# Altium integrated library Cypress PLD Simple.IntLib: 183 symbols (part 3 of 5)
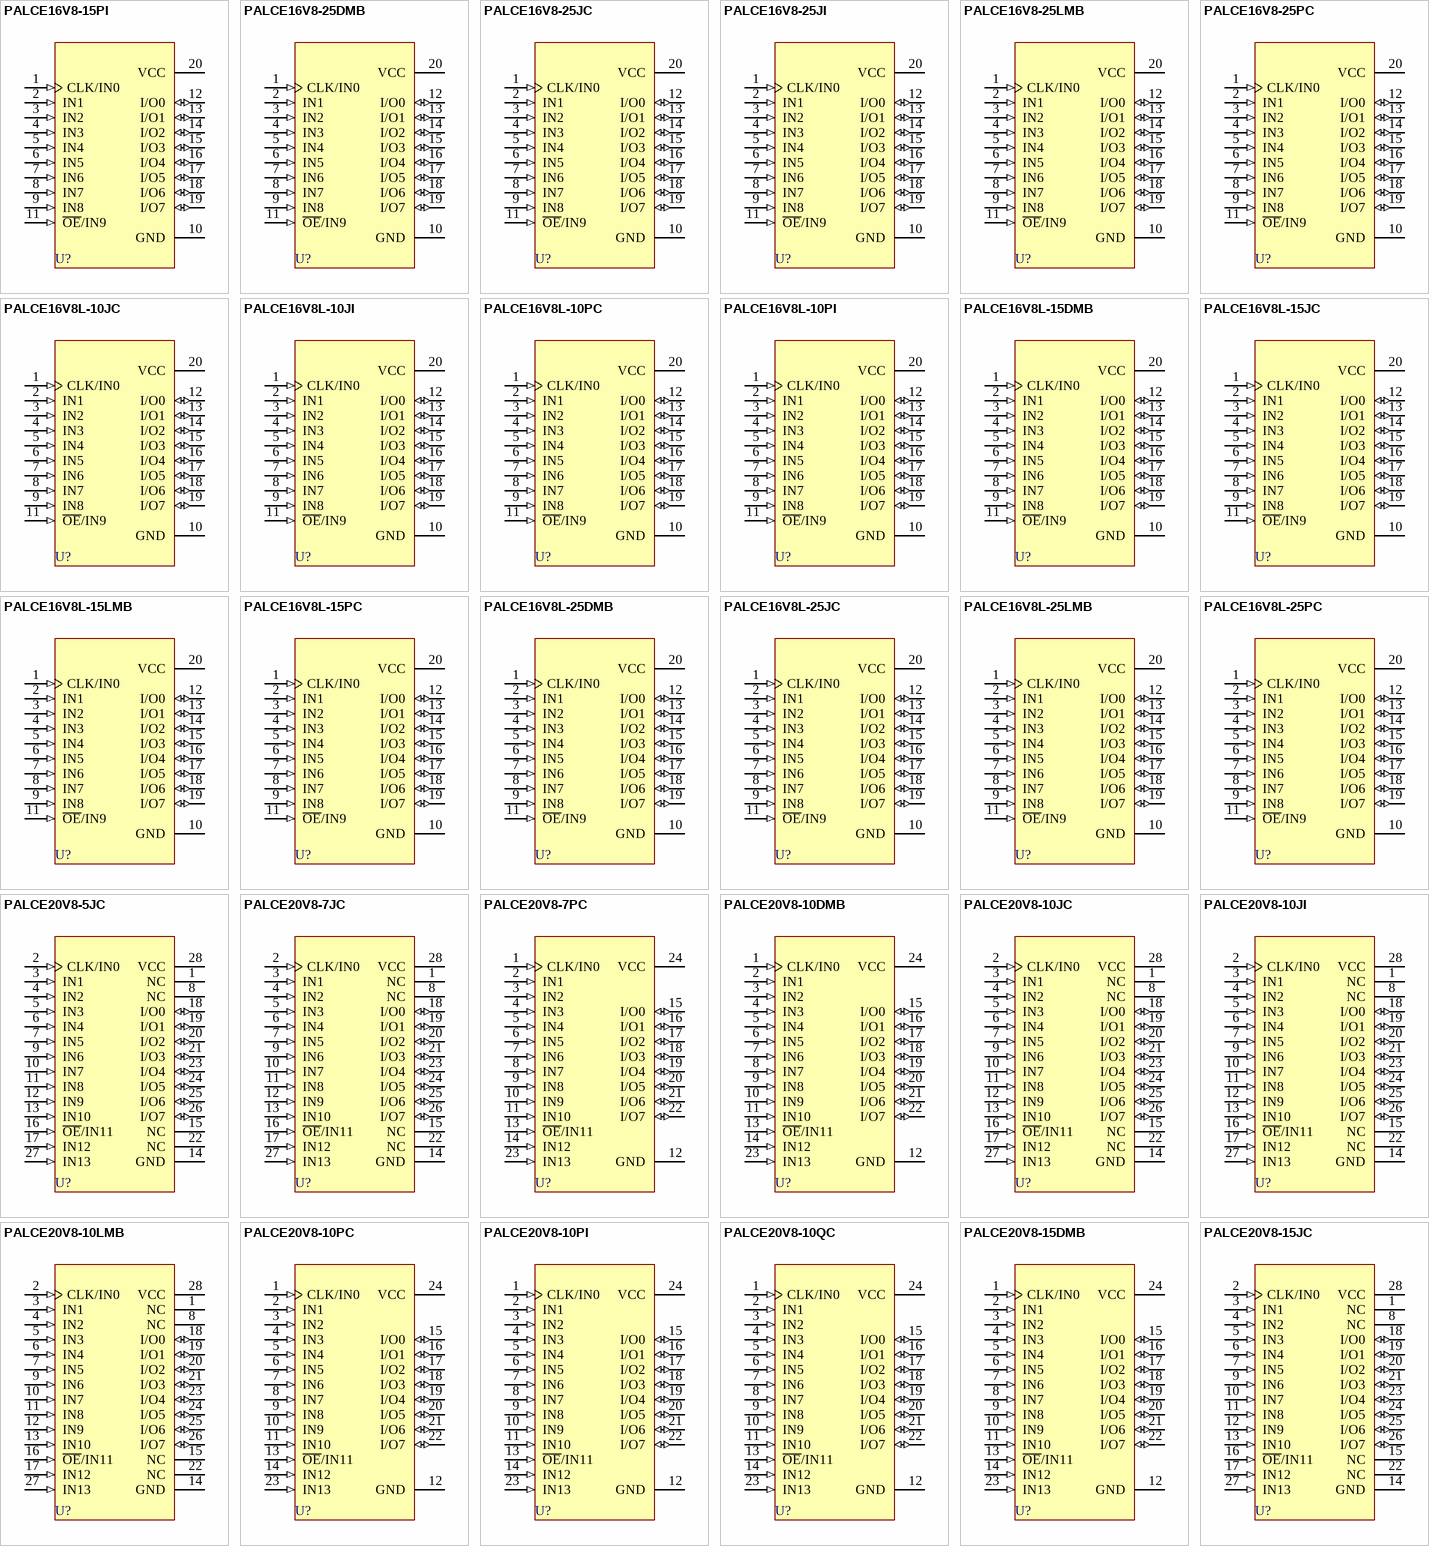
[diagram p9: symbols PALCE16V8-15PI to PALCE20V8-15JC]

## PALCE16V8L-25DMB
designator U?
Flash Erasable, Reprogrammable CMOS PAL Device; ComponentAvailability: Not for New Design; Published: 11-Dec-2002; LatestRevisionDate: 04-Mar-2005; LatestRevisionNote: Stylized 3D Model Added.; DatasheetVersion: 3-Sep-1998; PackageVersion: Jul-2001; PackageReference: D6; Publisher: Altium Limited; PackageDescription: CerDIP; 20 Leads; Row Spacing 7.62 mm; Pitch 2.54 mm; ComponentLink1Description: Manufacturer Link; ComponentLink1URL: http://www.cypress.com/; ComponentLink2Description: Datasheet; ComponentLink2URL: http://www.cypress.com/portal/server.pt/gateway/PTARGS_0_2_1524_209_259_43/http%3B/sjapp20.mis.cypress.com%3B7001/publishedcontent/publish/design_resources/datasheets/contents/palce16v8_5.pdf
footprint D6 (CerDIP; 20 Leads; Row Spacing 7.62 mm; Pitch 2.54 mm)
3D model D6 (CerDIP; 20 Leads; Row Spacing 7.62 mm; Pitch 2.54 mm)
pins: 1 CLK/IN0 (in), 2 IN1 (in), 3 IN2 (in), 4 IN3 (in), 5 IN4 (in), 6 IN5 (in), 7 IN6 (in), 8 IN7 (in), 9 IN8 (in), 10 GND (power), 11 ~{OE}/IN9 (in), 12 I/O0 (io), 13 I/O1 (io), 14 I/O2 (io), 15 I/O3 (io), 16 I/O4 (io), 17 I/O5 (io), 18 I/O6 (io), 19 I/O7 (io), 20 VCC (power)

## PALCE16V8L-25JC
designator U?
Flash Erasable, Reprogrammable CMOS PAL Device; ComponentAvailability: Not for New Design; Published: 11-Dec-2002; LatestRevisionDate: 13-Apr-2006; LatestRevisionNote: IPC-7351 Footprint Added.; DatasheetVersion: 3-Sep-1998; PackageVersion: Aug-2000; PackageReference: J61; Publisher: Altium Limited; PackageDescription: 20-Pin Plastic Leaded Chip Carrier 1.27 mm Pitch; Code_IPC: PLCC-20; ComponentLink1Description: Manufacturer Link; ComponentLink1URL: http://www.cypress.com/; ComponentLink2Description: Datasheet; ComponentLink2URL: http://www.cypress.com/portal/server.pt/gateway/PTARGS_0_2_1524_209_259_43/http%3B/sjapp20.mis.cypress.com%3B7001/publishedcontent/publish/design_resources/datasheets/contents/palce16v8_5.pdf
footprint J61_N (Leaded Chip Carrier, 20-Leads, Body 9x9mm, Pitch 1.27mm, IPC Medium Density)
footprint J61_L (Leaded Chip Carrier, 20-Leads, Body 9x9mm, Pitch 1.27mm, IPC High Density)
footprint J61_M (Leaded Chip Carrier, 20-Leads, Body 9x9mm, Pitch 1.27mm, IPC Low Density)
3D model PALCE16V8L-J61 (20-Pin Plastic Leaded Chip Carrier 1.27 mm Pitch)
pins: 1 CLK/IN0 (in), 2 IN1 (in), 3 IN2 (in), 4 IN3 (in), 5 IN4 (in), 6 IN5 (in), 7 IN6 (in), 8 IN7 (in), 9 IN8 (in), 10 GND (power), 11 ~{OE}/IN9 (in), 12 I/O0 (io), 13 I/O1 (io), 14 I/O2 (io), 15 I/O3 (io), 16 I/O4 (io), 17 I/O5 (io), 18 I/O6 (io), 19 I/O7 (io), 20 VCC (power)

## PALCE16V8L-25LMB
designator U?
Flash Erasable, Reprogrammable CMOS PAL Device; ComponentAvailability: Not for New Design; Published: 11-Dec-2002; DatasheetVersion: 3-Sep-1998; PackageVersion: Jul-2001; PackageReference: L61; Publisher: Altium Limited; PackageDescription: Leadless Chip Carrier; 20 Terminals; Body 8.9 x 8.9 mm; ComponentLink1Description: Manufacturer Link; ComponentLink1URL: http://www.cypress.com/; ComponentLink2Description: Datasheet; ComponentLink2URL: http://www.cypress.com/portal/server.pt/gateway/PTARGS_0_2_1524_209_259_43/http%3B/sjapp20.mis.cypress.com%3B7001/publishedcontent/publish/design_resources/datasheets/contents/palce16v8_5.pdf
footprint L61 (Leadless Chip Carrier; 20 Terminals; Body 8.9 x 8.9 mm)
pins: 1 CLK/IN0 (in), 2 IN1 (in), 3 IN2 (in), 4 IN3 (in), 5 IN4 (in), 6 IN5 (in), 7 IN6 (in), 8 IN7 (in), 9 IN8 (in), 10 GND (power), 11 ~{OE}/IN9 (in), 12 I/O0 (io), 13 I/O1 (io), 14 I/O2 (io), 15 I/O3 (io), 16 I/O4 (io), 17 I/O5 (io), 18 I/O6 (io), 19 I/O7 (io), 20 VCC (power)

## PALCE16V8L-25PC
designator U?
Flash Erasable, Reprogrammable CMOS PAL Device; ComponentAvailability: Not for New Design; Published: 11-Dec-2002; LatestRevisionDate: 04-Mar-2005; LatestRevisionNote: Stylized 3D Model Added.; DatasheetVersion: 3-Sep-1998; PackageVersion: Oct-2004; PackageReference: P5; Publisher: Altium Limited; PackageDescription: DIP, Molded; 20 Leads; Row Spacing 7.62 mm; Pitch 2.54 mm; Code_JEDEC: MS-001-AD; ComponentLink1Description: Manufacturer Link; ComponentLink1URL: http://www.cypress.com/; ComponentLink2Description: Datasheet; ComponentLink2URL: http://www.cypress.com/portal/server.pt/gateway/PTARGS_0_2_1524_209_259_43/http%3B/sjapp20.mis.cypress.com%3B7001/publishedcontent/publish/design_resources/datasheets/contents/palce16v8_5.pdf
footprint P5 (DIP, Molded; 20 Leads; Row Spacing 7.62 mm; Pitch 2.54 mm)
3D model P5 (DIP, Molded; 20 Leads; Row Spacing 7.62 mm; Pitch 2.54 mm)
pins: 1 CLK/IN0 (in), 2 IN1 (in), 3 IN2 (in), 4 IN3 (in), 5 IN4 (in), 6 IN5 (in), 7 IN6 (in), 8 IN7 (in), 9 IN8 (in), 10 GND (power), 11 ~{OE}/IN9 (in), 12 I/O0 (io), 13 I/O1 (io), 14 I/O2 (io), 15 I/O3 (io), 16 I/O4 (io), 17 I/O5 (io), 18 I/O6 (io), 19 I/O7 (io), 20 VCC (power)

## PALCE20V8-5JC
designator U?
Flash Erasable, Reprogrammable CMOS PAL Device; ComponentAvailability: Not for New Design; Published: 11-Dec-2002; LatestRevisionDate: 13-Apr-2006; LatestRevisionNote: IPC-7351 Footprint Added.; DatasheetVersion: 26-Mar-1997; PackageVersion: Jul-2000; PackageReference: J64; Publisher: Altium Limited; PackageDescription: 28-Pin Plastic Leaded Chip Carrier 1.27 mm Pitch; Code_IPC: PLCC-28; ComponentLink1Description: Manufacturer Link; ComponentLink1URL: http://www.cypress.com/; ComponentLink2Description: Datasheet; ComponentLink2URL: http://www.cypress.com/portal/server.pt/gateway/PTARGS_0_2_1524_209_259_43/http%3B/sjapp20.mis.cypress.com%3B7001/publishedcontent/publish/design_resources/datasheets/contents/palce20v8_5.pdf
footprint J64_N (Leaded Chip Carrier, 28-Leads, Body 11.5x11.5mm, Pitch 1.27mm, IPC Medium Density)
footprint J64_L (Leaded Chip Carrier, 28-Leads, Body 11.5x11.5mm, Pitch 1.27mm, IPC High Density)
footprint J64_M (Leaded Chip Carrier, 28-Leads, Body 11.5x11.5mm, Pitch 1.27mm, IPC Low Density)
3D model PALCE20V8-J64 (28-Pin Plastic Leaded Chip Carrier 1.27 mm Pitch)
pins: 1 NC, 2 CLK/IN0 (in), 3 IN1 (in), 4 IN2 (in), 5 IN3 (in), 6 IN4 (in), 7 IN5 (in), 8 NC, 9 IN6 (in), 10 IN7 (in), 11 IN8 (in), 12 IN9 (in), 13 IN10 (in), 14 GND (power), 15 NC, 16 ~{OE}/IN11 (in), 17 IN12 (in), 18 I/O0 (io), 19 I/O1 (io), 20 I/O2 (io), 21 I/O3 (io), 22 NC, 23 I/O4 (io), 24 I/O5 (io), 25 I/O6 (io), 26 I/O7 (io), 27 IN13 (in), 28 VCC (power)

## PALCE20V8-7JC
designator U?
Flash Erasable, Reprogrammable CMOS PAL Device; ComponentAvailability: Not for New Design; Published: 11-Dec-2002; LatestRevisionDate: 13-Apr-2006; LatestRevisionNote: IPC-7351 Footprint Added.; DatasheetVersion: 26-Mar-1997; PackageVersion: Jul-2000; PackageReference: J64; Publisher: Altium Limited; PackageDescription: 28-Pin Plastic Leaded Chip Carrier 1.27 mm Pitch; Code_IPC: PLCC-28; ComponentLink1Description: Manufacturer Link; ComponentLink1URL: http://www.cypress.com/; ComponentLink2Description: Datasheet; ComponentLink2URL: http://www.cypress.com/portal/server.pt/gateway/PTARGS_0_2_1524_209_259_43/http%3B/sjapp20.mis.cypress.com%3B7001/publishedcontent/publish/design_resources/datasheets/contents/palce20v8_5.pdf
footprint J64_N (Leaded Chip Carrier, 28-Leads, Body 11.5x11.5mm, Pitch 1.27mm, IPC Medium Density)
footprint J64_L (Leaded Chip Carrier, 28-Leads, Body 11.5x11.5mm, Pitch 1.27mm, IPC High Density)
footprint J64_M (Leaded Chip Carrier, 28-Leads, Body 11.5x11.5mm, Pitch 1.27mm, IPC Low Density)
3D model PALCE20V8-J64 (28-Pin Plastic Leaded Chip Carrier 1.27 mm Pitch)
pins: 1 NC, 2 CLK/IN0 (in), 3 IN1 (in), 4 IN2 (in), 5 IN3 (in), 6 IN4 (in), 7 IN5 (in), 8 NC, 9 IN6 (in), 10 IN7 (in), 11 IN8 (in), 12 IN9 (in), 13 IN10 (in), 14 GND (power), 15 NC, 16 ~{OE}/IN11 (in), 17 IN12 (in), 18 I/O0 (io), 19 I/O1 (io), 20 I/O2 (io), 21 I/O3 (io), 22 NC, 23 I/O4 (io), 24 I/O5 (io), 25 I/O6 (io), 26 I/O7 (io), 27 IN13 (in), 28 VCC (power)

## PALCE20V8-7PC
designator U?
Flash Erasable, Reprogrammable CMOS PAL Device; ComponentAvailability: Not for New Design; Published: 11-Dec-2002; LatestRevisionDate: 06-Oct-2005; LatestRevisionNote: Increased PCB silkscreen length.; DatasheetVersion: 26-Mar-1997; PackageVersion: Mar-2005; PackageReference: P13; Publisher: Altium Limited; PackageDescription: DIP, Molded; 24 Leads; Row Spacing 7.62 mm; Pitch 2.54 mm; ComponentLink1Description: Manufacturer Link; ComponentLink1URL: http://www.cypress.com/; ComponentLink2Description: Datasheet; ComponentLink2URL: http://www.cypress.com/portal/server.pt/gateway/PTARGS_0_2_1524_209_259_43/http%3B/sjapp20.mis.cypress.com%3B7001/publishedcontent/publish/design_resources/datasheets/contents/palce20v8_5.pdf
footprint P13 (DIP, Molded; 24 Leads; Row Spacing 7.62 mm; Pitch 2.54 mm)
3D model P13 (DIP, Molded; 24 Leads; Row Spacing 7.62 mm; Pitch 2.54 mm)
pins: 1 CLK/IN0 (in), 2 IN1 (in), 3 IN2 (in), 4 IN3 (in), 5 IN4 (in), 6 IN5 (in), 7 IN6 (in), 8 IN7 (in), 9 IN8 (in), 10 IN9 (in), 11 IN10 (in), 12 GND (power), 13 ~{OE}/IN11 (in), 14 IN12 (in), 15 I/O0 (io), 16 I/O1 (io), 17 I/O2 (io), 18 I/O3 (io), 19 I/O4 (io), 20 I/O5 (io), 21 I/O6 (io), 22 I/O7 (io), 23 IN13 (in), 24 VCC (power)

## PALCE20V8-10DMB
designator U?
Flash Erasable, Reprogrammable CMOS PAL Device; ComponentAvailability: Not for New Design; Published: 11-Dec-2002; LatestRevisionDate: 04-Mar-2005; LatestRevisionNote: Stylized 3D Model Added.; DatasheetVersion: 26-Mar-1997; PackageVersion: Jul-2001; PackageReference: D14; Publisher: Altium Limited; PackageDescription: CerDIP; 24 Leads; Row Spacing 7.62 mm; Pitch 2.54 mm; Code_JEDEC: MS-001-AF; ComponentLink1Description: Manufacturer Link; ComponentLink1URL: http://www.cypress.com/; ComponentLink2Description: Datasheet; ComponentLink2URL: http://www.cypress.com/portal/server.pt/gateway/PTARGS_0_2_1524_209_259_43/http%3B/sjapp20.mis.cypress.com%3B7001/publishedcontent/publish/design_resources/datasheets/contents/palce20v8_5.pdf
footprint D14 (CerDIP; 24 Leads; Row Spacing 7.62 mm; Pitch 2.54 mm)
3D model D14 (CerDIP; 24 Leads; Row Spacing 7.62 mm; Pitch 2.54 mm)
pins: 1 CLK/IN0 (in), 2 IN1 (in), 3 IN2 (in), 4 IN3 (in), 5 IN4 (in), 6 IN5 (in), 7 IN6 (in), 8 IN7 (in), 9 IN8 (in), 10 IN9 (in), 11 IN10 (in), 12 GND (power), 13 ~{OE}/IN11 (in), 14 IN12 (in), 15 I/O0 (io), 16 I/O1 (io), 17 I/O2 (io), 18 I/O3 (io), 19 I/O4 (io), 20 I/O5 (io), 21 I/O6 (io), 22 I/O7 (io), 23 IN13 (in), 24 VCC (power)

## PALCE20V8-10JC
designator U?
Flash Erasable, Reprogrammable CMOS PAL Device; ComponentAvailability: Not for New Design; Published: 11-Dec-2002; LatestRevisionDate: 13-Apr-2006; LatestRevisionNote: IPC-7351 Footprint Added.; DatasheetVersion: 26-Mar-1997; PackageVersion: Jul-2000; PackageReference: J64; Publisher: Altium Limited; PackageDescription: 28-Pin Plastic Leaded Chip Carrier 1.27 mm Pitch; Code_IPC: PLCC-28; ComponentLink1Description: Manufacturer Link; ComponentLink1URL: http://www.cypress.com/; ComponentLink2Description: Datasheet; ComponentLink2URL: http://www.cypress.com/portal/server.pt/gateway/PTARGS_0_2_1524_209_259_43/http%3B/sjapp20.mis.cypress.com%3B7001/publishedcontent/publish/design_resources/datasheets/contents/palce20v8_5.pdf
footprint J64_N (Leaded Chip Carrier, 28-Leads, Body 11.5x11.5mm, Pitch 1.27mm, IPC Medium Density)
footprint J64_L (Leaded Chip Carrier, 28-Leads, Body 11.5x11.5mm, Pitch 1.27mm, IPC High Density)
footprint J64_M (Leaded Chip Carrier, 28-Leads, Body 11.5x11.5mm, Pitch 1.27mm, IPC Low Density)
3D model PALCE20V8-J64 (28-Pin Plastic Leaded Chip Carrier 1.27 mm Pitch)
pins: 1 NC, 2 CLK/IN0 (in), 3 IN1 (in), 4 IN2 (in), 5 IN3 (in), 6 IN4 (in), 7 IN5 (in), 8 NC, 9 IN6 (in), 10 IN7 (in), 11 IN8 (in), 12 IN9 (in), 13 IN10 (in), 14 GND (power), 15 NC, 16 ~{OE}/IN11 (in), 17 IN12 (in), 18 I/O0 (io), 19 I/O1 (io), 20 I/O2 (io), 21 I/O3 (io), 22 NC, 23 I/O4 (io), 24 I/O5 (io), 25 I/O6 (io), 26 I/O7 (io), 27 IN13 (in), 28 VCC (power)

## PALCE20V8-10JI
designator U?
Flash Erasable, Reprogrammable CMOS PAL Device; ComponentAvailability: Not for New Design; Published: 11-Dec-2002; LatestRevisionDate: 13-Apr-2006; LatestRevisionNote: IPC-7351 Footprint Added.; DatasheetVersion: 26-Mar-1997; PackageVersion: Jul-2000; PackageReference: J64; Publisher: Altium Limited; PackageDescription: 28-Pin Plastic Leaded Chip Carrier 1.27 mm Pitch; Code_IPC: PLCC-28; ComponentLink1Description: Manufacturer Link; ComponentLink1URL: http://www.cypress.com/; ComponentLink2Description: Datasheet; ComponentLink2URL: http://www.cypress.com/portal/server.pt/gateway/PTARGS_0_2_1524_209_259_43/http%3B/sjapp20.mis.cypress.com%3B7001/publishedcontent/publish/design_resources/datasheets/contents/palce20v8_5.pdf
footprint J64_N (Leaded Chip Carrier, 28-Leads, Body 11.5x11.5mm, Pitch 1.27mm, IPC Medium Density)
footprint J64_L (Leaded Chip Carrier, 28-Leads, Body 11.5x11.5mm, Pitch 1.27mm, IPC High Density)
footprint J64_M (Leaded Chip Carrier, 28-Leads, Body 11.5x11.5mm, Pitch 1.27mm, IPC Low Density)
3D model PALCE20V8-J64 (28-Pin Plastic Leaded Chip Carrier 1.27 mm Pitch)
pins: 1 NC, 2 CLK/IN0 (in), 3 IN1 (in), 4 IN2 (in), 5 IN3 (in), 6 IN4 (in), 7 IN5 (in), 8 NC, 9 IN6 (in), 10 IN7 (in), 11 IN8 (in), 12 IN9 (in), 13 IN10 (in), 14 GND (power), 15 NC, 16 ~{OE}/IN11 (in), 17 IN12 (in), 18 I/O0 (io), 19 I/O1 (io), 20 I/O2 (io), 21 I/O3 (io), 22 NC, 23 I/O4 (io), 24 I/O5 (io), 25 I/O6 (io), 26 I/O7 (io), 27 IN13 (in), 28 VCC (power)

## PALCE20V8-10LMB
designator U?
Flash Erasable, Reprogrammable CMOS PAL Device; ComponentAvailability: Not for New Design; Published: 11-Dec-2002; DatasheetVersion: 26-Mar-1997; PackageVersion: Apr-2001; PackageReference: L64; Publisher: Altium Limited; PackageDescription: Leadless Chip Carrier; 28 Terminals; Body 11.4 x 11.4 mm; ComponentLink1Description: Manufacturer Link; ComponentLink1URL: http://www.cypress.com/; ComponentLink2Description: Datasheet; ComponentLink2URL: http://www.cypress.com/portal/server.pt/gateway/PTARGS_0_2_1524_209_259_43/http%3B/sjapp20.mis.cypress.com%3B7001/publishedcontent/publish/design_resources/datasheets/contents/palce20v8_5.pdf
footprint L64 (Leadless Chip Carrier; 28 Terminals; Body 11.4 x 11.4 mm)
pins: 1 NC, 2 CLK/IN0 (in), 3 IN1 (in), 4 IN2 (in), 5 IN3 (in), 6 IN4 (in), 7 IN5 (in), 8 NC, 9 IN6 (in), 10 IN7 (in), 11 IN8 (in), 12 IN9 (in), 13 IN10 (in), 14 GND (power), 15 NC, 16 ~{OE}/IN11 (in), 17 IN12 (in), 18 I/O0 (io), 19 I/O1 (io), 20 I/O2 (io), 21 I/O3 (io), 22 NC, 23 I/O4 (io), 24 I/O5 (io), 25 I/O6 (io), 26 I/O7 (io), 27 IN13 (in), 28 VCC (power)

## PALCE20V8-10PC
designator U?
Flash Erasable, Reprogrammable CMOS PAL Device; ComponentAvailability: Not for New Design; Published: 11-Dec-2002; LatestRevisionDate: 06-Oct-2005; LatestRevisionNote: Increased PCB silkscreen length.; DatasheetVersion: 26-Mar-1997; PackageVersion: Mar-2005; PackageReference: P13; Publisher: Altium Limited; PackageDescription: DIP, Molded; 24 Leads; Row Spacing 7.62 mm; Pitch 2.54 mm; ComponentLink1Description: Manufacturer Link; ComponentLink1URL: http://www.cypress.com/; ComponentLink2Description: Datasheet; ComponentLink2URL: http://www.cypress.com/portal/server.pt/gateway/PTARGS_0_2_1524_209_259_43/http%3B/sjapp20.mis.cypress.com%3B7001/publishedcontent/publish/design_resources/datasheets/contents/palce20v8_5.pdf
footprint P13 (DIP, Molded; 24 Leads; Row Spacing 7.62 mm; Pitch 2.54 mm)
3D model P13 (DIP, Molded; 24 Leads; Row Spacing 7.62 mm; Pitch 2.54 mm)
pins: 1 CLK/IN0 (in), 2 IN1 (in), 3 IN2 (in), 4 IN3 (in), 5 IN4 (in), 6 IN5 (in), 7 IN6 (in), 8 IN7 (in), 9 IN8 (in), 10 IN9 (in), 11 IN10 (in), 12 GND (power), 13 ~{OE}/IN11 (in), 14 IN12 (in), 15 I/O0 (io), 16 I/O1 (io), 17 I/O2 (io), 18 I/O3 (io), 19 I/O4 (io), 20 I/O5 (io), 21 I/O6 (io), 22 I/O7 (io), 23 IN13 (in), 24 VCC (power)

## PALCE20V8-10PI
designator U?
Flash Erasable, Reprogrammable CMOS PAL Device; ComponentAvailability: Not for New Design; Published: 11-Dec-2002; LatestRevisionDate: 06-Oct-2005; LatestRevisionNote: Increased PCB silkscreen length.; DatasheetVersion: 26-Mar-1997; PackageVersion: Mar-2005; PackageReference: P13; Publisher: Altium Limited; PackageDescription: DIP, Molded; 24 Leads; Row Spacing 7.62 mm; Pitch 2.54 mm; ComponentLink1Description: Manufacturer Link; ComponentLink1URL: http://www.cypress.com/; ComponentLink2Description: Datasheet; ComponentLink2URL: http://www.cypress.com/portal/server.pt/gateway/PTARGS_0_2_1524_209_259_43/http%3B/sjapp20.mis.cypress.com%3B7001/publishedcontent/publish/design_resources/datasheets/contents/palce20v8_5.pdf
footprint P13 (DIP, Molded; 24 Leads; Row Spacing 7.62 mm; Pitch 2.54 mm)
3D model P13 (DIP, Molded; 24 Leads; Row Spacing 7.62 mm; Pitch 2.54 mm)
pins: 1 CLK/IN0 (in), 2 IN1 (in), 3 IN2 (in), 4 IN3 (in), 5 IN4 (in), 6 IN5 (in), 7 IN6 (in), 8 IN7 (in), 9 IN8 (in), 10 IN9 (in), 11 IN10 (in), 12 GND (power), 13 ~{OE}/IN11 (in), 14 IN12 (in), 15 I/O0 (io), 16 I/O1 (io), 17 I/O2 (io), 18 I/O3 (io), 19 I/O4 (io), 20 I/O5 (io), 21 I/O6 (io), 22 I/O7 (io), 23 IN13 (in), 24 VCC (power)

## PALCE20V8-10QC
designator U?
Flash Erasable, Reprogrammable CMOS PAL Device; ComponentAvailability: Not for New Design; Published: 11-Dec-2002; LatestRevisionDate: 06-Oct-2005; LatestRevisionNote: Decreased pad length.; DatasheetVersion: 26-Mar-1997; PackageVersion: Oct-2004; PackageReference: Q13; Publisher: Altium Limited; PackageDescription: SSOP; 24 Leads; Body Width 3.9 mm; Pitch 0.635 mm; ComponentLink1Description: Manufacturer Link; ComponentLink1URL: http://www.cypress.com/; ComponentLink2Description: Datasheet; ComponentLink2URL: http://www.cypress.com/portal/server.pt/gateway/PTARGS_0_2_1524_209_259_43/http%3B/sjapp20.mis.cypress.com%3B7001/publishedcontent/publish/design_resources/datasheets/contents/palce20v8_5.pdf
footprint Q13 (SSOP; 24 Leads; Body Width 3.9 mm; Pitch 0.635 mm)
3D model Q13 (SSOP; 24 Leads; Body Width 3.9 mm; Pitch 0.635 mm)
pins: 1 CLK/IN0 (in), 2 IN1 (in), 3 IN2 (in), 4 IN3 (in), 5 IN4 (in), 6 IN5 (in), 7 IN6 (in), 8 IN7 (in), 9 IN8 (in), 10 IN9 (in), 11 IN10 (in), 12 GND (power), 13 ~{OE}/IN11 (in), 14 IN12 (in), 15 I/O0 (io), 16 I/O1 (io), 17 I/O2 (io), 18 I/O3 (io), 19 I/O4 (io), 20 I/O5 (io), 21 I/O6 (io), 22 I/O7 (io), 23 IN13 (in), 24 VCC (power)

## PALCE20V8-15DMB
designator U?
Flash Erasable, Reprogrammable CMOS PAL Device; ComponentAvailability: Not for New Design; Published: 11-Dec-2002; LatestRevisionDate: 04-Mar-2005; LatestRevisionNote: Stylized 3D Model Added.; DatasheetVersion: 26-Mar-1997; PackageVersion: Jul-2001; PackageReference: D14; Publisher: Altium Limited; PackageDescription: CerDIP; 24 Leads; Row Spacing 7.62 mm; Pitch 2.54 mm; Code_JEDEC: MS-001-AF; ComponentLink1Description: Manufacturer Link; ComponentLink1URL: http://www.cypress.com/; ComponentLink2Description: Datasheet; ComponentLink2URL: http://www.cypress.com/portal/server.pt/gateway/PTARGS_0_2_1524_209_259_43/http%3B/sjapp20.mis.cypress.com%3B7001/publishedcontent/publish/design_resources/datasheets/contents/palce20v8_5.pdf
footprint D14 (CerDIP; 24 Leads; Row Spacing 7.62 mm; Pitch 2.54 mm)
3D model D14 (CerDIP; 24 Leads; Row Spacing 7.62 mm; Pitch 2.54 mm)
pins: 1 CLK/IN0 (in), 2 IN1 (in), 3 IN2 (in), 4 IN3 (in), 5 IN4 (in), 6 IN5 (in), 7 IN6 (in), 8 IN7 (in), 9 IN8 (in), 10 IN9 (in), 11 IN10 (in), 12 GND (power), 13 ~{OE}/IN11 (in), 14 IN12 (in), 15 I/O0 (io), 16 I/O1 (io), 17 I/O2 (io), 18 I/O3 (io), 19 I/O4 (io), 20 I/O5 (io), 21 I/O6 (io), 22 I/O7 (io), 23 IN13 (in), 24 VCC (power)

## PALCE20V8-15JC
designator U?
Flash Erasable, Reprogrammable CMOS PAL Device; ComponentAvailability: Not for New Design; Published: 11-Dec-2002; LatestRevisionDate: 13-Apr-2006; LatestRevisionNote: IPC-7351 Footprint Added.; DatasheetVersion: 26-Mar-1997; PackageVersion: Jul-2000; PackageReference: J64; Publisher: Altium Limited; PackageDescription: 28-Pin Plastic Leaded Chip Carrier 1.27 mm Pitch; Code_IPC: PLCC-28; ComponentLink1Description: Manufacturer Link; ComponentLink1URL: http://www.cypress.com/; ComponentLink2Description: Datasheet; ComponentLink2URL: http://www.cypress.com/portal/server.pt/gateway/PTARGS_0_2_1524_209_259_43/http%3B/sjapp20.mis.cypress.com%3B7001/publishedcontent/publish/design_resources/datasheets/contents/palce20v8_5.pdf
footprint J64_N (Leaded Chip Carrier, 28-Leads, Body 11.5x11.5mm, Pitch 1.27mm, IPC Medium Density)
footprint J64_L (Leaded Chip Carrier, 28-Leads, Body 11.5x11.5mm, Pitch 1.27mm, IPC High Density)
footprint J64_M (Leaded Chip Carrier, 28-Leads, Body 11.5x11.5mm, Pitch 1.27mm, IPC Low Density)
3D model PALCE20V8-J64 (28-Pin Plastic Leaded Chip Carrier 1.27 mm Pitch)
pins: 1 NC, 2 CLK/IN0 (in), 3 IN1 (in), 4 IN2 (in), 5 IN3 (in), 6 IN4 (in), 7 IN5 (in), 8 NC, 9 IN6 (in), 10 IN7 (in), 11 IN8 (in), 12 IN9 (in), 13 IN10 (in), 14 GND (power), 15 NC, 16 ~{OE}/IN11 (in), 17 IN12 (in), 18 I/O0 (io), 19 I/O1 (io), 20 I/O2 (io), 21 I/O3 (io), 22 NC, 23 I/O4 (io), 24 I/O5 (io), 25 I/O6 (io), 26 I/O7 (io), 27 IN13 (in), 28 VCC (power)

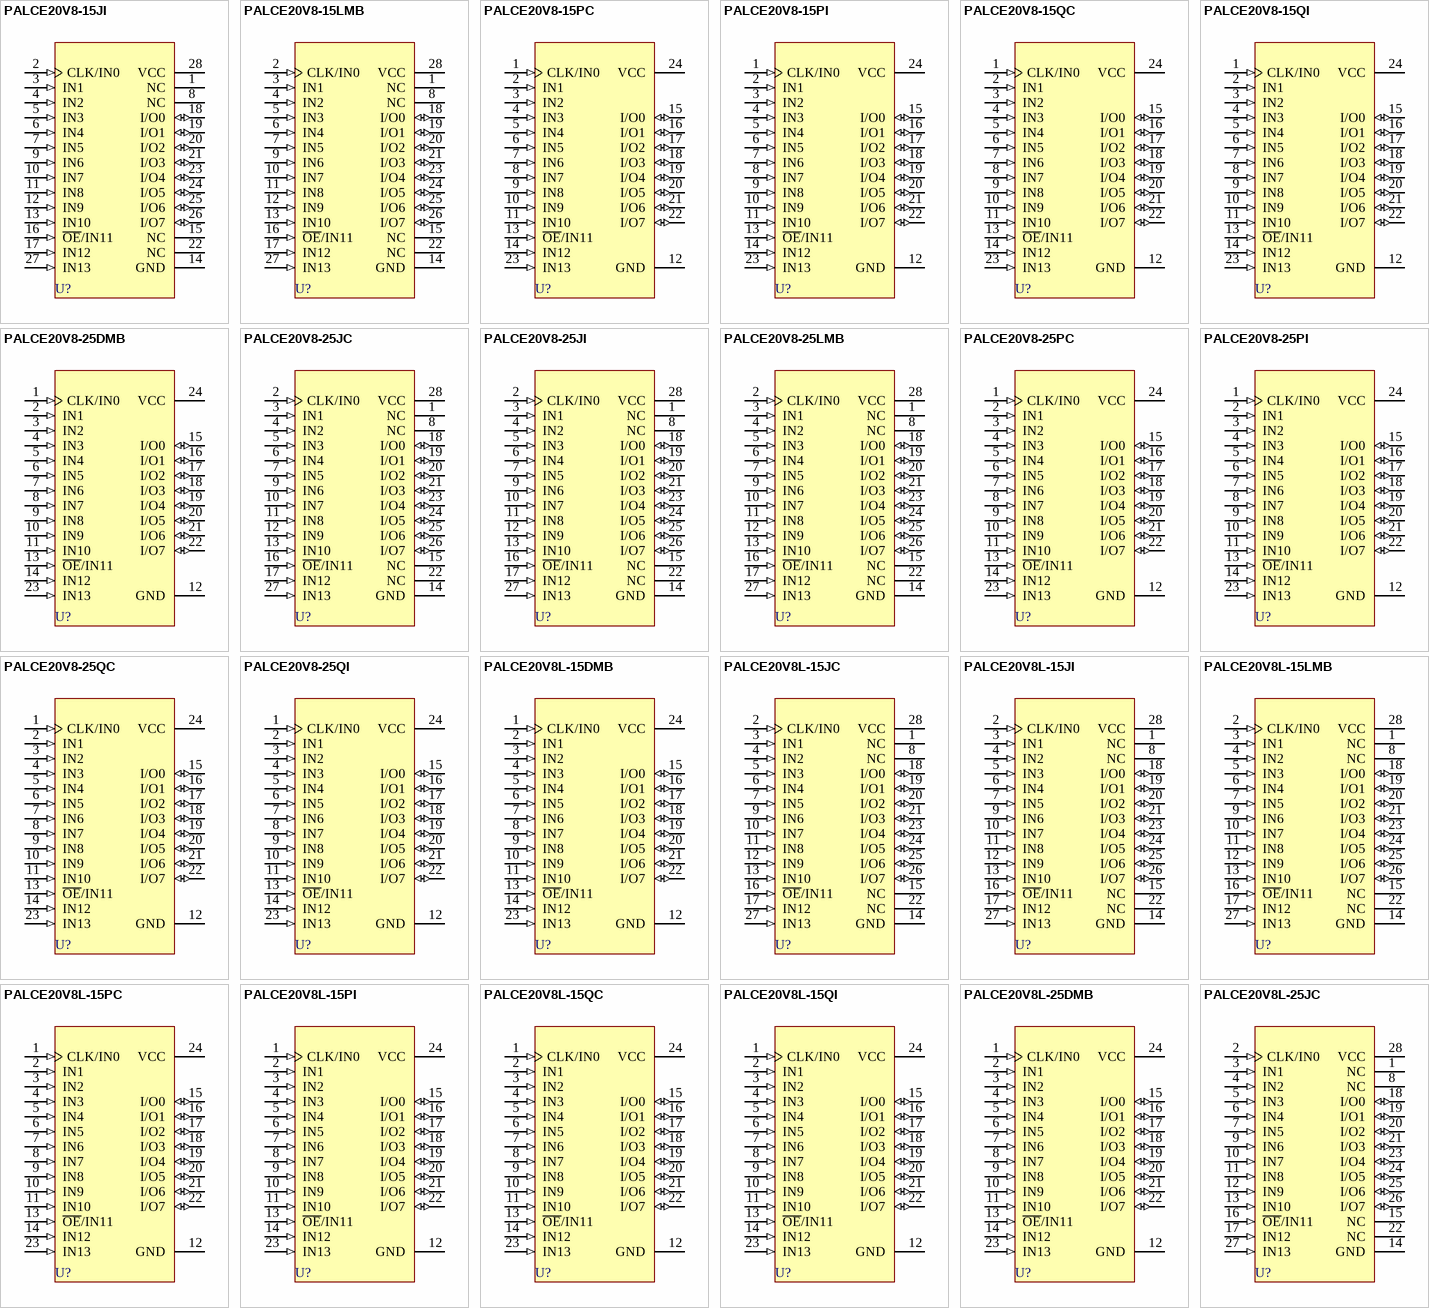
[diagram p4: symbols PALCE20V8-15JI to PALCE20V8L-25JC]

## PALCE20V8-15JI
designator U?
Flash Erasable, Reprogrammable CMOS PAL Device; ComponentAvailability: Not for New Design; Published: 11-Dec-2002; LatestRevisionDate: 13-Apr-2006; LatestRevisionNote: IPC-7351 Footprint Added.; DatasheetVersion: 26-Mar-1997; PackageVersion: Jul-2000; PackageReference: J64; Publisher: Altium Limited; PackageDescription: 28-Pin Plastic Leaded Chip Carrier 1.27 mm Pitch; Code_IPC: PLCC-28; ComponentLink1Description: Manufacturer Link; ComponentLink1URL: http://www.cypress.com/; ComponentLink2Description: Datasheet; ComponentLink2URL: http://www.cypress.com/portal/server.pt/gateway/PTARGS_0_2_1524_209_259_43/http%3B/sjapp20.mis.cypress.com%3B7001/publishedcontent/publish/design_resources/datasheets/contents/palce20v8_5.pdf
footprint J64_N (Leaded Chip Carrier, 28-Leads, Body 11.5x11.5mm, Pitch 1.27mm, IPC Medium Density)
footprint J64_L (Leaded Chip Carrier, 28-Leads, Body 11.5x11.5mm, Pitch 1.27mm, IPC High Density)
footprint J64_M (Leaded Chip Carrier, 28-Leads, Body 11.5x11.5mm, Pitch 1.27mm, IPC Low Density)
3D model PALCE20V8-J64 (28-Pin Plastic Leaded Chip Carrier 1.27 mm Pitch)
pins: 1 NC, 2 CLK/IN0 (in), 3 IN1 (in), 4 IN2 (in), 5 IN3 (in), 6 IN4 (in), 7 IN5 (in), 8 NC, 9 IN6 (in), 10 IN7 (in), 11 IN8 (in), 12 IN9 (in), 13 IN10 (in), 14 GND (power), 15 NC, 16 ~{OE}/IN11 (in), 17 IN12 (in), 18 I/O0 (io), 19 I/O1 (io), 20 I/O2 (io), 21 I/O3 (io), 22 NC, 23 I/O4 (io), 24 I/O5 (io), 25 I/O6 (io), 26 I/O7 (io), 27 IN13 (in), 28 VCC (power)

## PALCE20V8-15LMB
designator U?
Flash Erasable, Reprogrammable CMOS PAL Device; ComponentAvailability: Not for New Design; Published: 11-Dec-2002; DatasheetVersion: 26-Mar-1997; PackageVersion: Apr-2001; PackageReference: L64; Publisher: Altium Limited; PackageDescription: Leadless Chip Carrier; 28 Terminals; Body 11.4 x 11.4 mm; ComponentLink1Description: Manufacturer Link; ComponentLink1URL: http://www.cypress.com/; ComponentLink2Description: Datasheet; ComponentLink2URL: http://www.cypress.com/portal/server.pt/gateway/PTARGS_0_2_1524_209_259_43/http%3B/sjapp20.mis.cypress.com%3B7001/publishedcontent/publish/design_resources/datasheets/contents/palce20v8_5.pdf
footprint L64 (Leadless Chip Carrier; 28 Terminals; Body 11.4 x 11.4 mm)
pins: 1 NC, 2 CLK/IN0 (in), 3 IN1 (in), 4 IN2 (in), 5 IN3 (in), 6 IN4 (in), 7 IN5 (in), 8 NC, 9 IN6 (in), 10 IN7 (in), 11 IN8 (in), 12 IN9 (in), 13 IN10 (in), 14 GND (power), 15 NC, 16 ~{OE}/IN11 (in), 17 IN12 (in), 18 I/O0 (io), 19 I/O1 (io), 20 I/O2 (io), 21 I/O3 (io), 22 NC, 23 I/O4 (io), 24 I/O5 (io), 25 I/O6 (io), 26 I/O7 (io), 27 IN13 (in), 28 VCC (power)

## PALCE20V8-15PC
designator U?
Flash Erasable, Reprogrammable CMOS PAL Device; ComponentAvailability: Not for New Design; Published: 11-Dec-2002; LatestRevisionDate: 06-Oct-2005; LatestRevisionNote: Increased PCB silkscreen length.; DatasheetVersion: 26-Mar-1997; PackageVersion: Mar-2005; PackageReference: P13; Publisher: Altium Limited; PackageDescription: DIP, Molded; 24 Leads; Row Spacing 7.62 mm; Pitch 2.54 mm; ComponentLink1Description: Manufacturer Link; ComponentLink1URL: http://www.cypress.com/; ComponentLink2Description: Datasheet; ComponentLink2URL: http://www.cypress.com/portal/server.pt/gateway/PTARGS_0_2_1524_209_259_43/http%3B/sjapp20.mis.cypress.com%3B7001/publishedcontent/publish/design_resources/datasheets/contents/palce20v8_5.pdf
footprint P13 (DIP, Molded; 24 Leads; Row Spacing 7.62 mm; Pitch 2.54 mm)
3D model P13 (DIP, Molded; 24 Leads; Row Spacing 7.62 mm; Pitch 2.54 mm)
pins: 1 CLK/IN0 (in), 2 IN1 (in), 3 IN2 (in), 4 IN3 (in), 5 IN4 (in), 6 IN5 (in), 7 IN6 (in), 8 IN7 (in), 9 IN8 (in), 10 IN9 (in), 11 IN10 (in), 12 GND (power), 13 ~{OE}/IN11 (in), 14 IN12 (in), 15 I/O0 (io), 16 I/O1 (io), 17 I/O2 (io), 18 I/O3 (io), 19 I/O4 (io), 20 I/O5 (io), 21 I/O6 (io), 22 I/O7 (io), 23 IN13 (in), 24 VCC (power)

## PALCE20V8-15PI
designator U?
Flash Erasable, Reprogrammable CMOS PAL Device; ComponentAvailability: Not for New Design; Published: 11-Dec-2002; LatestRevisionDate: 06-Oct-2005; LatestRevisionNote: Increased PCB silkscreen length.; DatasheetVersion: 26-Mar-1997; PackageVersion: Mar-2005; PackageReference: P13; Publisher: Altium Limited; PackageDescription: DIP, Molded; 24 Leads; Row Spacing 7.62 mm; Pitch 2.54 mm; ComponentLink1Description: Manufacturer Link; ComponentLink1URL: http://www.cypress.com/; ComponentLink2Description: Datasheet; ComponentLink2URL: http://www.cypress.com/portal/server.pt/gateway/PTARGS_0_2_1524_209_259_43/http%3B/sjapp20.mis.cypress.com%3B7001/publishedcontent/publish/design_resources/datasheets/contents/palce20v8_5.pdf
footprint P13 (DIP, Molded; 24 Leads; Row Spacing 7.62 mm; Pitch 2.54 mm)
3D model P13 (DIP, Molded; 24 Leads; Row Spacing 7.62 mm; Pitch 2.54 mm)
pins: 1 CLK/IN0 (in), 2 IN1 (in), 3 IN2 (in), 4 IN3 (in), 5 IN4 (in), 6 IN5 (in), 7 IN6 (in), 8 IN7 (in), 9 IN8 (in), 10 IN9 (in), 11 IN10 (in), 12 GND (power), 13 ~{OE}/IN11 (in), 14 IN12 (in), 15 I/O0 (io), 16 I/O1 (io), 17 I/O2 (io), 18 I/O3 (io), 19 I/O4 (io), 20 I/O5 (io), 21 I/O6 (io), 22 I/O7 (io), 23 IN13 (in), 24 VCC (power)

## PALCE20V8-15QC
designator U?
Flash Erasable, Reprogrammable CMOS PAL Device; ComponentAvailability: Not for New Design; Published: 11-Dec-2002; LatestRevisionDate: 06-Oct-2005; LatestRevisionNote: Decreased pad length.; DatasheetVersion: 26-Mar-1997; PackageVersion: Oct-2004; PackageReference: Q13; Publisher: Altium Limited; PackageDescription: SSOP; 24 Leads; Body Width 3.9 mm; Pitch 0.635 mm; ComponentLink1Description: Manufacturer Link; ComponentLink1URL: http://www.cypress.com/; ComponentLink2Description: Datasheet; ComponentLink2URL: http://www.cypress.com/portal/server.pt/gateway/PTARGS_0_2_1524_209_259_43/http%3B/sjapp20.mis.cypress.com%3B7001/publishedcontent/publish/design_resources/datasheets/contents/palce20v8_5.pdf
footprint Q13 (SSOP; 24 Leads; Body Width 3.9 mm; Pitch 0.635 mm)
3D model Q13 (SSOP; 24 Leads; Body Width 3.9 mm; Pitch 0.635 mm)
pins: 1 CLK/IN0 (in), 2 IN1 (in), 3 IN2 (in), 4 IN3 (in), 5 IN4 (in), 6 IN5 (in), 7 IN6 (in), 8 IN7 (in), 9 IN8 (in), 10 IN9 (in), 11 IN10 (in), 12 GND (power), 13 ~{OE}/IN11 (in), 14 IN12 (in), 15 I/O0 (io), 16 I/O1 (io), 17 I/O2 (io), 18 I/O3 (io), 19 I/O4 (io), 20 I/O5 (io), 21 I/O6 (io), 22 I/O7 (io), 23 IN13 (in), 24 VCC (power)

## PALCE20V8-15QI
designator U?
Flash Erasable, Reprogrammable CMOS PAL Device; ComponentAvailability: Not for New Design; Published: 11-Dec-2002; LatestRevisionDate: 06-Oct-2005; LatestRevisionNote: Decreased pad length.; DatasheetVersion: 26-Mar-1997; PackageVersion: Oct-2004; PackageReference: Q13; Publisher: Altium Limited; PackageDescription: SSOP; 24 Leads; Body Width 3.9 mm; Pitch 0.635 mm; ComponentLink1Description: Manufacturer Link; ComponentLink1URL: http://www.cypress.com/; ComponentLink2Description: Datasheet; ComponentLink2URL: http://www.cypress.com/portal/server.pt/gateway/PTARGS_0_2_1524_209_259_43/http%3B/sjapp20.mis.cypress.com%3B7001/publishedcontent/publish/design_resources/datasheets/contents/palce20v8_5.pdf
footprint Q13 (SSOP; 24 Leads; Body Width 3.9 mm; Pitch 0.635 mm)
3D model Q13 (SSOP; 24 Leads; Body Width 3.9 mm; Pitch 0.635 mm)
pins: 1 CLK/IN0 (in), 2 IN1 (in), 3 IN2 (in), 4 IN3 (in), 5 IN4 (in), 6 IN5 (in), 7 IN6 (in), 8 IN7 (in), 9 IN8 (in), 10 IN9 (in), 11 IN10 (in), 12 GND (power), 13 ~{OE}/IN11 (in), 14 IN12 (in), 15 I/O0 (io), 16 I/O1 (io), 17 I/O2 (io), 18 I/O3 (io), 19 I/O4 (io), 20 I/O5 (io), 21 I/O6 (io), 22 I/O7 (io), 23 IN13 (in), 24 VCC (power)

## PALCE20V8-25DMB
designator U?
Flash Erasable, Reprogrammable CMOS PAL Device; ComponentAvailability: Not for New Design; Published: 11-Dec-2002; LatestRevisionDate: 04-Mar-2005; LatestRevisionNote: Stylized 3D Model Added.; DatasheetVersion: 26-Mar-1997; PackageVersion: Jul-2001; PackageReference: D14; Publisher: Altium Limited; PackageDescription: CerDIP; 24 Leads; Row Spacing 7.62 mm; Pitch 2.54 mm; Code_JEDEC: MS-001-AF; ComponentLink1Description: Manufacturer Link; ComponentLink1URL: http://www.cypress.com/; ComponentLink2Description: Datasheet; ComponentLink2URL: http://www.cypress.com/portal/server.pt/gateway/PTARGS_0_2_1524_209_259_43/http%3B/sjapp20.mis.cypress.com%3B7001/publishedcontent/publish/design_resources/datasheets/contents/palce20v8_5.pdf
footprint D14 (CerDIP; 24 Leads; Row Spacing 7.62 mm; Pitch 2.54 mm)
3D model D14 (CerDIP; 24 Leads; Row Spacing 7.62 mm; Pitch 2.54 mm)
pins: 1 CLK/IN0 (in), 2 IN1 (in), 3 IN2 (in), 4 IN3 (in), 5 IN4 (in), 6 IN5 (in), 7 IN6 (in), 8 IN7 (in), 9 IN8 (in), 10 IN9 (in), 11 IN10 (in), 12 GND (power), 13 ~{OE}/IN11 (in), 14 IN12 (in), 15 I/O0 (io), 16 I/O1 (io), 17 I/O2 (io), 18 I/O3 (io), 19 I/O4 (io), 20 I/O5 (io), 21 I/O6 (io), 22 I/O7 (io), 23 IN13 (in), 24 VCC (power)

## PALCE20V8-25JC
designator U?
Flash Erasable, Reprogrammable CMOS PAL Device; ComponentAvailability: Not for New Design; Published: 11-Dec-2002; LatestRevisionDate: 13-Apr-2006; LatestRevisionNote: IPC-7351 Footprint Added.; DatasheetVersion: 26-Mar-1997; PackageVersion: Jul-2000; PackageReference: J64; Publisher: Altium Limited; PackageDescription: 28-Pin Plastic Leaded Chip Carrier 1.27 mm Pitch; Code_IPC: PLCC-28; ComponentLink1Description: Manufacturer Link; ComponentLink1URL: http://www.cypress.com/; ComponentLink2Description: Datasheet; ComponentLink2URL: http://www.cypress.com/portal/server.pt/gateway/PTARGS_0_2_1524_209_259_43/http%3B/sjapp20.mis.cypress.com%3B7001/publishedcontent/publish/design_resources/datasheets/contents/palce20v8_5.pdf
footprint J64_N (Leaded Chip Carrier, 28-Leads, Body 11.5x11.5mm, Pitch 1.27mm, IPC Medium Density)
footprint J64_L (Leaded Chip Carrier, 28-Leads, Body 11.5x11.5mm, Pitch 1.27mm, IPC High Density)
footprint J64_M (Leaded Chip Carrier, 28-Leads, Body 11.5x11.5mm, Pitch 1.27mm, IPC Low Density)
3D model PALCE20V8-J64 (28-Pin Plastic Leaded Chip Carrier 1.27 mm Pitch)
pins: 1 NC, 2 CLK/IN0 (in), 3 IN1 (in), 4 IN2 (in), 5 IN3 (in), 6 IN4 (in), 7 IN5 (in), 8 NC, 9 IN6 (in), 10 IN7 (in), 11 IN8 (in), 12 IN9 (in), 13 IN10 (in), 14 GND (power), 15 NC, 16 ~{OE}/IN11 (in), 17 IN12 (in), 18 I/O0 (io), 19 I/O1 (io), 20 I/O2 (io), 21 I/O3 (io), 22 NC, 23 I/O4 (io), 24 I/O5 (io), 25 I/O6 (io), 26 I/O7 (io), 27 IN13 (in), 28 VCC (power)

## PALCE20V8-25JI
designator U?
Flash Erasable, Reprogrammable CMOS PAL Device; ComponentAvailability: Not for New Design; Published: 11-Dec-2002; LatestRevisionDate: 13-Apr-2006; LatestRevisionNote: IPC-7351 Footprint Added.; DatasheetVersion: 26-Mar-1997; PackageVersion: Jul-2000; PackageReference: J64; Publisher: Altium Limited; PackageDescription: 28-Pin Plastic Leaded Chip Carrier 1.27 mm Pitch; Code_IPC: PLCC-28; ComponentLink1Description: Manufacturer Link; ComponentLink1URL: http://www.cypress.com/; ComponentLink2Description: Datasheet; ComponentLink2URL: http://www.cypress.com/portal/server.pt/gateway/PTARGS_0_2_1524_209_259_43/http%3B/sjapp20.mis.cypress.com%3B7001/publishedcontent/publish/design_resources/datasheets/contents/palce20v8_5.pdf
footprint J64_N (Leaded Chip Carrier, 28-Leads, Body 11.5x11.5mm, Pitch 1.27mm, IPC Medium Density)
footprint J64_L (Leaded Chip Carrier, 28-Leads, Body 11.5x11.5mm, Pitch 1.27mm, IPC High Density)
footprint J64_M (Leaded Chip Carrier, 28-Leads, Body 11.5x11.5mm, Pitch 1.27mm, IPC Low Density)
3D model PALCE20V8-J64 (28-Pin Plastic Leaded Chip Carrier 1.27 mm Pitch)
pins: 1 NC, 2 CLK/IN0 (in), 3 IN1 (in), 4 IN2 (in), 5 IN3 (in), 6 IN4 (in), 7 IN5 (in), 8 NC, 9 IN6 (in), 10 IN7 (in), 11 IN8 (in), 12 IN9 (in), 13 IN10 (in), 14 GND (power), 15 NC, 16 ~{OE}/IN11 (in), 17 IN12 (in), 18 I/O0 (io), 19 I/O1 (io), 20 I/O2 (io), 21 I/O3 (io), 22 NC, 23 I/O4 (io), 24 I/O5 (io), 25 I/O6 (io), 26 I/O7 (io), 27 IN13 (in), 28 VCC (power)

## PALCE20V8-25LMB
designator U?
Flash Erasable, Reprogrammable CMOS PAL Device; ComponentAvailability: Not for New Design; Published: 11-Dec-2002; DatasheetVersion: 26-Mar-1997; PackageVersion: Apr-2001; PackageReference: L64; Publisher: Altium Limited; PackageDescription: Leadless Chip Carrier; 28 Terminals; Body 11.4 x 11.4 mm; ComponentLink1Description: Manufacturer Link; ComponentLink1URL: http://www.cypress.com/; ComponentLink2Description: Datasheet; ComponentLink2URL: http://www.cypress.com/portal/server.pt/gateway/PTARGS_0_2_1524_209_259_43/http%3B/sjapp20.mis.cypress.com%3B7001/publishedcontent/publish/design_resources/datasheets/contents/palce20v8_5.pdf
footprint L64 (Leadless Chip Carrier; 28 Terminals; Body 11.4 x 11.4 mm)
pins: 1 NC, 2 CLK/IN0 (in), 3 IN1 (in), 4 IN2 (in), 5 IN3 (in), 6 IN4 (in), 7 IN5 (in), 8 NC, 9 IN6 (in), 10 IN7 (in), 11 IN8 (in), 12 IN9 (in), 13 IN10 (in), 14 GND (power), 15 NC, 16 ~{OE}/IN11 (in), 17 IN12 (in), 18 I/O0 (io), 19 I/O1 (io), 20 I/O2 (io), 21 I/O3 (io), 22 NC, 23 I/O4 (io), 24 I/O5 (io), 25 I/O6 (io), 26 I/O7 (io), 27 IN13 (in), 28 VCC (power)

## PALCE20V8-25PC
designator U?
Flash Erasable, Reprogrammable CMOS PAL Device; ComponentAvailability: Not for New Design; Published: 11-Dec-2002; LatestRevisionDate: 06-Oct-2005; LatestRevisionNote: Increased PCB silkscreen length.; DatasheetVersion: 26-Mar-1997; PackageVersion: Mar-2005; PackageReference: P13; Publisher: Altium Limited; PackageDescription: DIP, Molded; 24 Leads; Row Spacing 7.62 mm; Pitch 2.54 mm; ComponentLink1Description: Manufacturer Link; ComponentLink1URL: http://www.cypress.com/; ComponentLink2Description: Datasheet; ComponentLink2URL: http://www.cypress.com/portal/server.pt/gateway/PTARGS_0_2_1524_209_259_43/http%3B/sjapp20.mis.cypress.com%3B7001/publishedcontent/publish/design_resources/datasheets/contents/palce20v8_5.pdf
footprint P13 (DIP, Molded; 24 Leads; Row Spacing 7.62 mm; Pitch 2.54 mm)
3D model P13 (DIP, Molded; 24 Leads; Row Spacing 7.62 mm; Pitch 2.54 mm)
pins: 1 CLK/IN0 (in), 2 IN1 (in), 3 IN2 (in), 4 IN3 (in), 5 IN4 (in), 6 IN5 (in), 7 IN6 (in), 8 IN7 (in), 9 IN8 (in), 10 IN9 (in), 11 IN10 (in), 12 GND (power), 13 ~{OE}/IN11 (in), 14 IN12 (in), 15 I/O0 (io), 16 I/O1 (io), 17 I/O2 (io), 18 I/O3 (io), 19 I/O4 (io), 20 I/O5 (io), 21 I/O6 (io), 22 I/O7 (io), 23 IN13 (in), 24 VCC (power)

## PALCE20V8-25PI
designator U?
Flash Erasable, Reprogrammable CMOS PAL Device; ComponentAvailability: Not for New Design; Published: 11-Dec-2002; LatestRevisionDate: 06-Oct-2005; LatestRevisionNote: Increased PCB silkscreen length.; DatasheetVersion: 26-Mar-1997; PackageVersion: Mar-2005; PackageReference: P13; Publisher: Altium Limited; PackageDescription: DIP, Molded; 24 Leads; Row Spacing 7.62 mm; Pitch 2.54 mm; ComponentLink1Description: Manufacturer Link; ComponentLink1URL: http://www.cypress.com/; ComponentLink2Description: Datasheet; ComponentLink2URL: http://www.cypress.com/portal/server.pt/gateway/PTARGS_0_2_1524_209_259_43/http%3B/sjapp20.mis.cypress.com%3B7001/publishedcontent/publish/design_resources/datasheets/contents/palce20v8_5.pdf
footprint P13 (DIP, Molded; 24 Leads; Row Spacing 7.62 mm; Pitch 2.54 mm)
3D model P13 (DIP, Molded; 24 Leads; Row Spacing 7.62 mm; Pitch 2.54 mm)
pins: 1 CLK/IN0 (in), 2 IN1 (in), 3 IN2 (in), 4 IN3 (in), 5 IN4 (in), 6 IN5 (in), 7 IN6 (in), 8 IN7 (in), 9 IN8 (in), 10 IN9 (in), 11 IN10 (in), 12 GND (power), 13 ~{OE}/IN11 (in), 14 IN12 (in), 15 I/O0 (io), 16 I/O1 (io), 17 I/O2 (io), 18 I/O3 (io), 19 I/O4 (io), 20 I/O5 (io), 21 I/O6 (io), 22 I/O7 (io), 23 IN13 (in), 24 VCC (power)

## PALCE20V8-25QC
designator U?
Flash Erasable, Reprogrammable CMOS PAL Device; ComponentAvailability: Not for New Design; Published: 11-Dec-2002; LatestRevisionDate: 06-Oct-2005; LatestRevisionNote: Decreased pad length.; DatasheetVersion: 26-Mar-1997; PackageVersion: Oct-2004; PackageReference: Q13; Publisher: Altium Limited; PackageDescription: SSOP; 24 Leads; Body Width 3.9 mm; Pitch 0.635 mm; ComponentLink1Description: Manufacturer Link; ComponentLink1URL: http://www.cypress.com/; ComponentLink2Description: Datasheet; ComponentLink2URL: http://www.cypress.com/portal/server.pt/gateway/PTARGS_0_2_1524_209_259_43/http%3B/sjapp20.mis.cypress.com%3B7001/publishedcontent/publish/design_resources/datasheets/contents/palce20v8_5.pdf
footprint Q13 (SSOP; 24 Leads; Body Width 3.9 mm; Pitch 0.635 mm)
3D model Q13 (SSOP; 24 Leads; Body Width 3.9 mm; Pitch 0.635 mm)
pins: 1 CLK/IN0 (in), 2 IN1 (in), 3 IN2 (in), 4 IN3 (in), 5 IN4 (in), 6 IN5 (in), 7 IN6 (in), 8 IN7 (in), 9 IN8 (in), 10 IN9 (in), 11 IN10 (in), 12 GND (power), 13 ~{OE}/IN11 (in), 14 IN12 (in), 15 I/O0 (io), 16 I/O1 (io), 17 I/O2 (io), 18 I/O3 (io), 19 I/O4 (io), 20 I/O5 (io), 21 I/O6 (io), 22 I/O7 (io), 23 IN13 (in), 24 VCC (power)

## PALCE20V8-25QI
designator U?
Flash Erasable, Reprogrammable CMOS PAL Device; ComponentAvailability: Not for New Design; Published: 11-Dec-2002; LatestRevisionDate: 06-Oct-2005; LatestRevisionNote: Decreased pad length.; DatasheetVersion: 26-Mar-1997; PackageVersion: Oct-2004; PackageReference: Q13; Publisher: Altium Limited; PackageDescription: SSOP; 24 Leads; Body Width 3.9 mm; Pitch 0.635 mm; ComponentLink1Description: Manufacturer Link; ComponentLink1URL: http://www.cypress.com/; ComponentLink2Description: Datasheet; ComponentLink2URL: http://www.cypress.com/portal/server.pt/gateway/PTARGS_0_2_1524_209_259_43/http%3B/sjapp20.mis.cypress.com%3B7001/publishedcontent/publish/design_resources/datasheets/contents/palce20v8_5.pdf
footprint Q13 (SSOP; 24 Leads; Body Width 3.9 mm; Pitch 0.635 mm)
3D model Q13 (SSOP; 24 Leads; Body Width 3.9 mm; Pitch 0.635 mm)
pins: 1 CLK/IN0 (in), 2 IN1 (in), 3 IN2 (in), 4 IN3 (in), 5 IN4 (in), 6 IN5 (in), 7 IN6 (in), 8 IN7 (in), 9 IN8 (in), 10 IN9 (in), 11 IN10 (in), 12 GND (power), 13 ~{OE}/IN11 (in), 14 IN12 (in), 15 I/O0 (io), 16 I/O1 (io), 17 I/O2 (io), 18 I/O3 (io), 19 I/O4 (io), 20 I/O5 (io), 21 I/O6 (io), 22 I/O7 (io), 23 IN13 (in), 24 VCC (power)

## PALCE20V8L-15DMB
designator U?
Flash Erasable, Reprogrammable CMOS PAL Device; ComponentAvailability: Not for New Design; Published: 11-Dec-2002; LatestRevisionDate: 04-Mar-2005; LatestRevisionNote: Stylized 3D Model Added.; DatasheetVersion: 26-Mar-1997; PackageVersion: Jul-2001; PackageReference: D14; Publisher: Altium Limited; PackageDescription: CerDIP; 24 Leads; Row Spacing 7.62 mm; Pitch 2.54 mm; Code_JEDEC: MS-001-AF; ComponentLink1Description: Manufacturer Link; ComponentLink1URL: http://www.cypress.com/; ComponentLink2Description: Datasheet; ComponentLink2URL: http://www.cypress.com/portal/server.pt/gateway/PTARGS_0_2_1524_209_259_43/http%3B/sjapp20.mis.cypress.com%3B7001/publishedcontent/publish/design_resources/datasheets/contents/palce20v8_5.pdf
footprint D14 (CerDIP; 24 Leads; Row Spacing 7.62 mm; Pitch 2.54 mm)
3D model D14 (CerDIP; 24 Leads; Row Spacing 7.62 mm; Pitch 2.54 mm)
pins: 1 CLK/IN0 (in), 2 IN1 (in), 3 IN2 (in), 4 IN3 (in), 5 IN4 (in), 6 IN5 (in), 7 IN6 (in), 8 IN7 (in), 9 IN8 (in), 10 IN9 (in), 11 IN10 (in), 12 GND (power), 13 ~{OE}/IN11 (in), 14 IN12 (in), 15 I/O0 (io), 16 I/O1 (io), 17 I/O2 (io), 18 I/O3 (io), 19 I/O4 (io), 20 I/O5 (io), 21 I/O6 (io), 22 I/O7 (io), 23 IN13 (in), 24 VCC (power)

## PALCE20V8L-15JC
designator U?
Flash Erasable, Reprogrammable CMOS PAL Device; ComponentAvailability: Not for New Design; Published: 11-Dec-2002; LatestRevisionDate: 13-Apr-2006; LatestRevisionNote: IPC-7351 Footprint Added.; DatasheetVersion: 26-Mar-1997; PackageVersion: Jul-2000; PackageReference: J64; Publisher: Altium Limited; PackageDescription: 28-Pin Plastic Leaded Chip Carrier 1.27 mm Pitch; Code_IPC: PLCC-28; ComponentLink1Description: Manufacturer Link; ComponentLink1URL: http://www.cypress.com/; ComponentLink2Description: Datasheet; ComponentLink2URL: http://www.cypress.com/portal/server.pt/gateway/PTARGS_0_2_1524_209_259_43/http%3B/sjapp20.mis.cypress.com%3B7001/publishedcontent/publish/design_resources/datasheets/contents/palce20v8_5.pdf
footprint J64_N (Leaded Chip Carrier, 28-Leads, Body 11.5x11.5mm, Pitch 1.27mm, IPC Medium Density)
footprint J64_L (Leaded Chip Carrier, 28-Leads, Body 11.5x11.5mm, Pitch 1.27mm, IPC High Density)
footprint J64_M (Leaded Chip Carrier, 28-Leads, Body 11.5x11.5mm, Pitch 1.27mm, IPC Low Density)
3D model PALCE20V8L-J64 (28-Pin Plastic Leaded Chip Carrier 1.27 mm Pitch)
pins: 1 NC, 2 CLK/IN0 (in), 3 IN1 (in), 4 IN2 (in), 5 IN3 (in), 6 IN4 (in), 7 IN5 (in), 8 NC, 9 IN6 (in), 10 IN7 (in), 11 IN8 (in), 12 IN9 (in), 13 IN10 (in), 14 GND (power), 15 NC, 16 ~{OE}/IN11 (in), 17 IN12 (in), 18 I/O0 (io), 19 I/O1 (io), 20 I/O2 (io), 21 I/O3 (io), 22 NC, 23 I/O4 (io), 24 I/O5 (io), 25 I/O6 (io), 26 I/O7 (io), 27 IN13 (in), 28 VCC (power)

## PALCE20V8L-15JI
designator U?
Flash Erasable, Reprogrammable CMOS PAL Device; ComponentAvailability: Not for New Design; Published: 11-Dec-2002; LatestRevisionDate: 13-Apr-2006; LatestRevisionNote: IPC-7351 Footprint Added.; DatasheetVersion: 26-Mar-1997; PackageVersion: Jul-2000; PackageReference: J64; Publisher: Altium Limited; PackageDescription: 28-Pin Plastic Leaded Chip Carrier 1.27 mm Pitch; Code_IPC: PLCC-28; ComponentLink1Description: Manufacturer Link; ComponentLink1URL: http://www.cypress.com/; ComponentLink2Description: Datasheet; ComponentLink2URL: http://www.cypress.com/portal/server.pt/gateway/PTARGS_0_2_1524_209_259_43/http%3B/sjapp20.mis.cypress.com%3B7001/publishedcontent/publish/design_resources/datasheets/contents/palce20v8_5.pdf
footprint J64_N (Leaded Chip Carrier, 28-Leads, Body 11.5x11.5mm, Pitch 1.27mm, IPC Medium Density)
footprint J64_L (Leaded Chip Carrier, 28-Leads, Body 11.5x11.5mm, Pitch 1.27mm, IPC High Density)
footprint J64_M (Leaded Chip Carrier, 28-Leads, Body 11.5x11.5mm, Pitch 1.27mm, IPC Low Density)
3D model PALCE20V8L-J64 (28-Pin Plastic Leaded Chip Carrier 1.27 mm Pitch)
pins: 1 NC, 2 CLK/IN0 (in), 3 IN1 (in), 4 IN2 (in), 5 IN3 (in), 6 IN4 (in), 7 IN5 (in), 8 NC, 9 IN6 (in), 10 IN7 (in), 11 IN8 (in), 12 IN9 (in), 13 IN10 (in), 14 GND (power), 15 NC, 16 ~{OE}/IN11 (in), 17 IN12 (in), 18 I/O0 (io), 19 I/O1 (io), 20 I/O2 (io), 21 I/O3 (io), 22 NC, 23 I/O4 (io), 24 I/O5 (io), 25 I/O6 (io), 26 I/O7 (io), 27 IN13 (in), 28 VCC (power)

## PALCE20V8L-15LMB
designator U?
Flash Erasable, Reprogrammable CMOS PAL Device; ComponentAvailability: Not for New Design; Published: 11-Dec-2002; DatasheetVersion: 26-Mar-1997; PackageVersion: Apr-2001; PackageReference: L64; Publisher: Altium Limited; PackageDescription: Leadless Chip Carrier; 28 Terminals; Body 11.4 x 11.4 mm; ComponentLink1Description: Manufacturer Link; ComponentLink1URL: http://www.cypress.com/; ComponentLink2Description: Datasheet; ComponentLink2URL: http://www.cypress.com/portal/server.pt/gateway/PTARGS_0_2_1524_209_259_43/http%3B/sjapp20.mis.cypress.com%3B7001/publishedcontent/publish/design_resources/datasheets/contents/palce20v8_5.pdf
footprint L64 (Leadless Chip Carrier; 28 Terminals; Body 11.4 x 11.4 mm)
pins: 1 NC, 2 CLK/IN0 (in), 3 IN1 (in), 4 IN2 (in), 5 IN3 (in), 6 IN4 (in), 7 IN5 (in), 8 NC, 9 IN6 (in), 10 IN7 (in), 11 IN8 (in), 12 IN9 (in), 13 IN10 (in), 14 GND (power), 15 NC, 16 ~{OE}/IN11 (in), 17 IN12 (in), 18 I/O0 (io), 19 I/O1 (io), 20 I/O2 (io), 21 I/O3 (io), 22 NC, 23 I/O4 (io), 24 I/O5 (io), 25 I/O6 (io), 26 I/O7 (io), 27 IN13 (in), 28 VCC (power)

## PALCE20V8L-15PC
designator U?
Flash Erasable, Reprogrammable CMOS PAL Device; ComponentAvailability: Not for New Design; Published: 11-Dec-2002; LatestRevisionDate: 06-Oct-2005; LatestRevisionNote: Increased PCB silkscreen length.; DatasheetVersion: 26-Mar-1997; PackageVersion: Mar-2005; PackageReference: P13; Publisher: Altium Limited; PackageDescription: DIP, Molded; 24 Leads; Row Spacing 7.62 mm; Pitch 2.54 mm; ComponentLink1Description: Manufacturer Link; ComponentLink1URL: http://www.cypress.com/; ComponentLink2Description: Datasheet; ComponentLink2URL: http://www.cypress.com/portal/server.pt/gateway/PTARGS_0_2_1524_209_259_43/http%3B/sjapp20.mis.cypress.com%3B7001/publishedcontent/publish/design_resources/datasheets/contents/palce20v8_5.pdf
footprint P13 (DIP, Molded; 24 Leads; Row Spacing 7.62 mm; Pitch 2.54 mm)
3D model P13 (DIP, Molded; 24 Leads; Row Spacing 7.62 mm; Pitch 2.54 mm)
pins: 1 CLK/IN0 (in), 2 IN1 (in), 3 IN2 (in), 4 IN3 (in), 5 IN4 (in), 6 IN5 (in), 7 IN6 (in), 8 IN7 (in), 9 IN8 (in), 10 IN9 (in), 11 IN10 (in), 12 GND (power), 13 ~{OE}/IN11 (in), 14 IN12 (in), 15 I/O0 (io), 16 I/O1 (io), 17 I/O2 (io), 18 I/O3 (io), 19 I/O4 (io), 20 I/O5 (io), 21 I/O6 (io), 22 I/O7 (io), 23 IN13 (in), 24 VCC (power)

## PALCE20V8L-15PI
designator U?
Flash Erasable, Reprogrammable CMOS PAL Device; ComponentAvailability: Not for New Design; Published: 11-Dec-2002; LatestRevisionDate: 06-Oct-2005; LatestRevisionNote: Increased PCB silkscreen length.; DatasheetVersion: 26-Mar-1997; PackageVersion: Mar-2005; PackageReference: P13; Publisher: Altium Limited; PackageDescription: DIP, Molded; 24 Leads; Row Spacing 7.62 mm; Pitch 2.54 mm; ComponentLink1Description: Manufacturer Link; ComponentLink1URL: http://www.cypress.com/; ComponentLink2Description: Datasheet; ComponentLink2URL: http://www.cypress.com/portal/server.pt/gateway/PTARGS_0_2_1524_209_259_43/http%3B/sjapp20.mis.cypress.com%3B7001/publishedcontent/publish/design_resources/datasheets/contents/palce20v8_5.pdf
footprint P13 (DIP, Molded; 24 Leads; Row Spacing 7.62 mm; Pitch 2.54 mm)
3D model P13 (DIP, Molded; 24 Leads; Row Spacing 7.62 mm; Pitch 2.54 mm)
pins: 1 CLK/IN0 (in), 2 IN1 (in), 3 IN2 (in), 4 IN3 (in), 5 IN4 (in), 6 IN5 (in), 7 IN6 (in), 8 IN7 (in), 9 IN8 (in), 10 IN9 (in), 11 IN10 (in), 12 GND (power), 13 ~{OE}/IN11 (in), 14 IN12 (in), 15 I/O0 (io), 16 I/O1 (io), 17 I/O2 (io), 18 I/O3 (io), 19 I/O4 (io), 20 I/O5 (io), 21 I/O6 (io), 22 I/O7 (io), 23 IN13 (in), 24 VCC (power)

## PALCE20V8L-15QC
designator U?
Flash Erasable, Reprogrammable CMOS PAL Device; ComponentAvailability: Not for New Design; Published: 11-Dec-2002; LatestRevisionDate: 06-Oct-2005; LatestRevisionNote: Decreased pad length.; DatasheetVersion: 26-Mar-1997; PackageVersion: Oct-2004; PackageReference: Q13; Publisher: Altium Limited; PackageDescription: SSOP; 24 Leads; Body Width 3.9 mm; Pitch 0.635 mm; ComponentLink1Description: Manufacturer Link; ComponentLink1URL: http://www.cypress.com/; ComponentLink2Description: Datasheet; ComponentLink2URL: http://www.cypress.com/portal/server.pt/gateway/PTARGS_0_2_1524_209_259_43/http%3B/sjapp20.mis.cypress.com%3B7001/publishedcontent/publish/design_resources/datasheets/contents/palce20v8_5.pdf
footprint Q13 (SSOP; 24 Leads; Body Width 3.9 mm; Pitch 0.635 mm)
3D model Q13 (SSOP; 24 Leads; Body Width 3.9 mm; Pitch 0.635 mm)
pins: 1 CLK/IN0 (in), 2 IN1 (in), 3 IN2 (in), 4 IN3 (in), 5 IN4 (in), 6 IN5 (in), 7 IN6 (in), 8 IN7 (in), 9 IN8 (in), 10 IN9 (in), 11 IN10 (in), 12 GND (power), 13 ~{OE}/IN11 (in), 14 IN12 (in), 15 I/O0 (io), 16 I/O1 (io), 17 I/O2 (io), 18 I/O3 (io), 19 I/O4 (io), 20 I/O5 (io), 21 I/O6 (io), 22 I/O7 (io), 23 IN13 (in), 24 VCC (power)

## PALCE20V8L-15QI
designator U?
Flash Erasable, Reprogrammable CMOS PAL Device; ComponentAvailability: Not for New Design; Published: 11-Dec-2002; LatestRevisionDate: 06-Oct-2005; LatestRevisionNote: Decreased pad length.; DatasheetVersion: 26-Mar-1997; PackageVersion: Oct-2004; PackageReference: Q13; Publisher: Altium Limited; PackageDescription: SSOP; 24 Leads; Body Width 3.9 mm; Pitch 0.635 mm; ComponentLink1Description: Manufacturer Link; ComponentLink1URL: http://www.cypress.com/; ComponentLink2Description: Datasheet; ComponentLink2URL: http://www.cypress.com/portal/server.pt/gateway/PTARGS_0_2_1524_209_259_43/http%3B/sjapp20.mis.cypress.com%3B7001/publishedcontent/publish/design_resources/datasheets/contents/palce20v8_5.pdf
footprint Q13 (SSOP; 24 Leads; Body Width 3.9 mm; Pitch 0.635 mm)
3D model Q13 (SSOP; 24 Leads; Body Width 3.9 mm; Pitch 0.635 mm)
pins: 1 CLK/IN0 (in), 2 IN1 (in), 3 IN2 (in), 4 IN3 (in), 5 IN4 (in), 6 IN5 (in), 7 IN6 (in), 8 IN7 (in), 9 IN8 (in), 10 IN9 (in), 11 IN10 (in), 12 GND (power), 13 ~{OE}/IN11 (in), 14 IN12 (in), 15 I/O0 (io), 16 I/O1 (io), 17 I/O2 (io), 18 I/O3 (io), 19 I/O4 (io), 20 I/O5 (io), 21 I/O6 (io), 22 I/O7 (io), 23 IN13 (in), 24 VCC (power)